# EAGLE library part HEADER-1.27-EDGE-M (library con-headers)
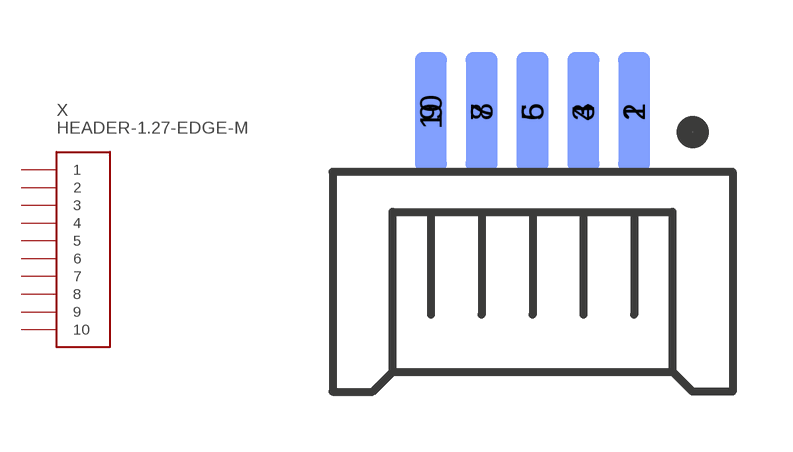
[diagram p0: symbol with the pads of HEADER-1.27-EDGE-M; footprint HEADER-1.27-EDGE-M]

Designator prefix X

## HEADER-1.27-EDGE-M  [HEADER-1.27-EDGE-M]
1  1
2  2
3  3
4  4
5  5
6  6
7  7
8  8
9  9
10  10

## Footprint HEADER-1.27-EDGE-M (pad centres in mm)
smd 0.8 x 3: 1 2.54,0; 3 1.27,0; 5 0,0; 7 -1.27,0; 9 -2.54,0
smd 0.8 x 3 bottom: 2 2.54,0; 4 1.27,0; 6 0,0; 8 -1.27,0; 10 -2.54,0